# Altium footprint library PcbLib1.PcbLib: 5 footprints
Each footprint in its own frame and in the unit in brackets; x right, y up, seen from the top. Pads: shape width x height; smd on the part's side, far side on the other; paste and mask are expansions set on the pad; w line width, h text height; cw(c..) or ccw(c..) is an arc to the next point about the centre after c.
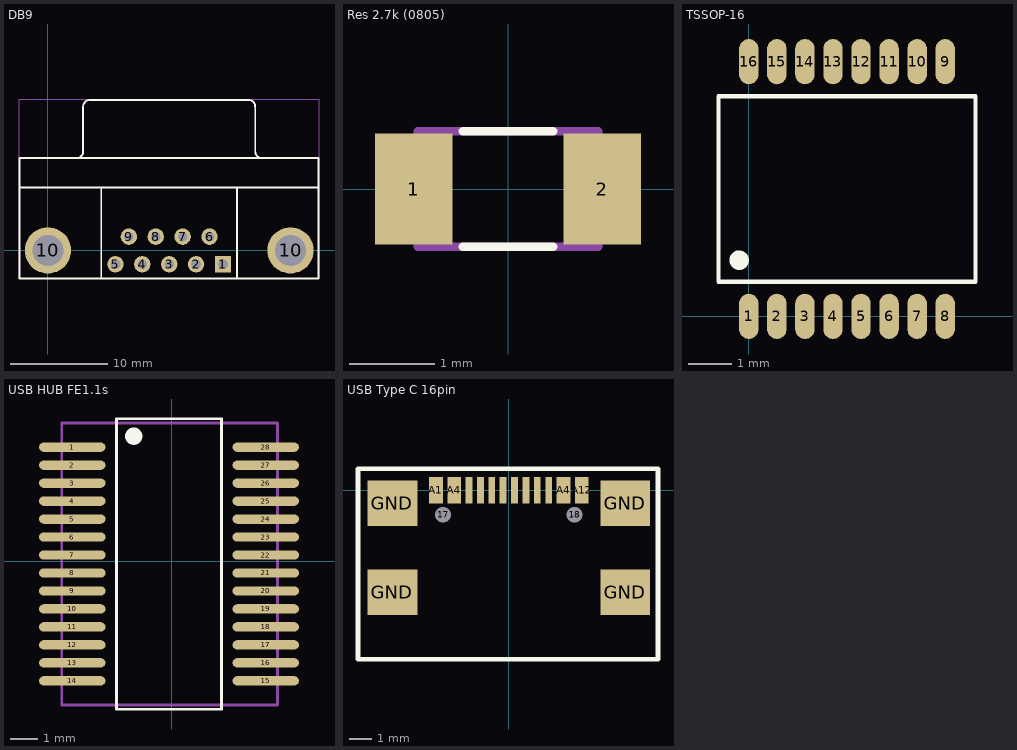
[diagram p0: the footprints below, top view; thin cyan lines are the x and y axes]

## DB9 [mm]
pads (11):
  rect 1.69x1.69 hole 1: 1(18.035,-1.42)
  round 1.69 hole 1: 2(15.265,-1.42) 3(12.495,-1.42) 4(9.725,-1.42) 5(6.955,-1.42) 6(16.65,1.42) 7(13.88,1.42) 8(11.11,1.42) 9(8.34,1.42)
  round 4.76 hole 3.2: 10(0,0) 10(24.99,0)
Top Overlay:
  lines w0.2: -2.905,6.5 27.895,6.5 ; 2.935,9.505 ccw(c2.935,10.2) 3.63,10.2 3.63,14.8 ; 3.635,14.805 cw(c4.33,14.805) 4.33,15.5 20.66,15.5 cw(c20.66,14.805) 21.355,14.805 ; 5.495,-2.9 5.495,6.5 ; 19.495,-2.9 19.495,6.5 ; 21.36,14.8 21.36,10.2 ccw(c22.055,10.2) 22.055,9.505 ; -2.905,-2.9 27.895,-2.9 27.895,9.5 -2.905,9.5 -2.905,-2.9
Mechanical 13:
  lines w0.1: -2.975,-2.85 -2.975,15.55 27.925,15.55 27.925,-2.85 -2.975,-2.85
3D body "DB9.STEP": height 12.53, standoff -3.97, extent -2.975,-2.85 27.925,15.55

## Res 2.7k (0805) [mm] "2.7k"
pads (2):
  rect 0.9x1.3 smd: 1(-1.1,0) 2(1.1,0)
Top Overlay:
  lines w0.1: -0.525,-0.675 0.525,-0.675 ; -0.525,0.675 0.525,0.675
Mechanical 13:
  lines w0.1: -1.05,-0.675 1.05,-0.675 1.05,0.675 -1.05,0.675 -1.05,-0.675
3D body "RESC-0805.stp": height 0.6, standoff 0, extent -1.05,-0.675 1.05,0.675

## TSSOP-16 [mm]
pads (16):
  oval 0.45x1.05 smd paste+0 mask+0.1: 1(0,0) 2(0.65,0) 3(1.3,0) 4(1.95,0) 5(2.6,0) 6(3.25,0) 7(3.9,0) 8(4.55,0) 9(4.55,5.9) 10(3.9,5.9) 11(3.25,5.9) 12(2.6,5.9) 13(1.95,5.9) 14(1.3,5.9) 15(0.65,5.9) 16(0,5.9)
Top Overlay:
  circle w0.25: c-0.225,1.3 r0.1
  lines w0.1: -0.7,0.8 5.25,0.8 5.25,5.1 -0.7,5.1 -0.7,0.8
3D body "TSSOP-16.STEP": height -0.39, standoff -1.17, extent -0.225,-0.25 4.776,6.15

## USB HUB FE1.1s [mm]
pads (28):
  oval 2.4x0.34 smd: 1(-3.6,4.125) 2(-3.6,3.475) 3(-3.6,2.825) 4(-3.6,2.175) 5(-3.6,1.525) 6(-3.6,0.875) 7(-3.6,0.225) 8(-3.6,-0.425) 9(-3.6,-1.075) 10(-3.6,-1.725) 11(-3.6,-2.375) 12(-3.6,-3.025) 13(-3.6,-3.675) 14(-3.6,-4.325) 15(3.4,-4.325) 16(3.4,-3.675) 17(3.4,-3.025) 18(3.4,-2.375) 19(3.4,-1.725) 20(3.4,-1.075) 21(3.4,-0.425) 22(3.4,0.225) 23(3.4,0.875) 24(3.4,1.525) 25(3.4,2.175) 26(3.4,2.825) 27(3.4,3.475) 28(3.4,4.125)
Top Overlay:
  lines w0.1: -2,-5.35 1.8,-5.35 1.8,5.15 -2,5.15 -2,-5.35
  lines w0.32: -1.223,4.529 cw(c-1.375,4.525) -1.223,4.54
Mechanical 13:
  lines w0.1: -3.975,-5.2 3.825,-5.2 3.825,5 -3.975,5 -3.975,-5.2
3D body "SSOP-28-3.STEP": height 1.9, standoff 0, extent -3.975,-5.2 3.825,5

## USB Type C 16pin [mm]
pads (18):
  round 0.65 hole 0.7 mask+0.03: 17(-2.89,-1.075)
  round 0.65 hole 0.7 unplated mask+0.03: 18(2.89,-1.075)
  rect 0.6x1.15 smd mask+0.03: A1(-3.2,0) A4(-2.4,0) A4(2.4,0) A12(3.2,0)
  rect 0.3x1.15 smd mask+0.03: A5(-1.75,0) A6(-0.25,0) A7(0.75,0) A8(1.75,0) B5(1.25,0) B6(0.25,0) B7(-0.75,0) B8(-1.25,0)
  rect 2.18x2 smd: GND(-5.11,-4.475) GND(-5.11,-0.575) GND(5.11,-4.475) GND(5.11,-0.575)
Top Overlay:
  lines w0.2: -6.625,-7.425 6.55,-7.425 6.55,0.95 -6.625,0.95 -6.625,-0.925 -6.625,-7.425